# EAGLE library part BLUNOBLE (library my-library)
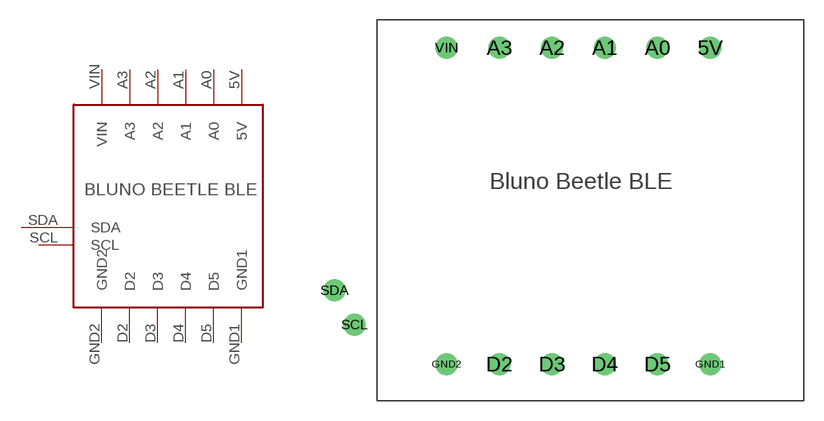
[diagram p0: symbol with the pads of BLUNOBLE; footprint BLUNOBLE]

Designator prefix -

## BLUNOBLE  [BLUNOBLE]
5V  5V  out
A0  A0
A1  A1  nc
A2  A2  nc
A3  A3  nc
D2  D2  in
D3  D3
D4  D4
D5  D5  nc
GND1  GND1  out
GND2  GND2  pwr
SCL  SCL
SDA  SDA
VIN  VIN  pwr

## Footprint BLUNOBLE (pad centres in mm)
drill 1 pad 1.676: 5V 10.4,12; A0 6.4,12; A1 2.4,12; A2 -1.6,12; A3 -5.6,12; D2 -5.6,-12; D3 -1.6,-12; D4 2.4,-12; D5 6.4,-12; GND1 10.4,-12; GND2 -9.6,-12; SCL -16.6,-9; SDA -18.1,-6.4; VIN -9.6,12